# Altium footprint library TO255P1040X460X2890-3.PcbLib: 1 footprints
Each footprint in its own frame and in the unit in brackets; x right, y up, seen from the top. Pads: shape width x height; smd on the part's side, far side on the other; paste and mask are expansions set on the pad; w line width, h text height; cw(c..) or ccw(c..) is an arc to the next point about the centre after c.
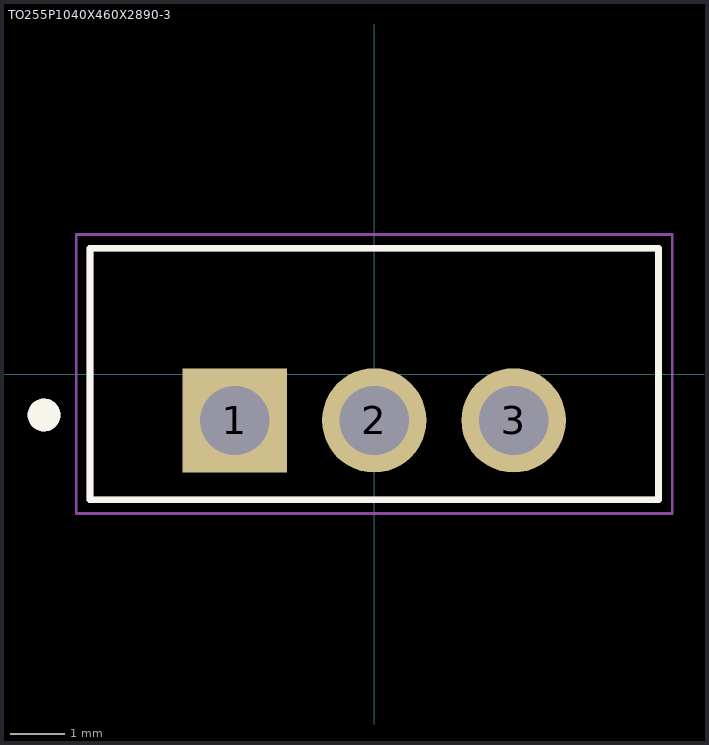
[diagram p0: the footprint, top view; thin cyan lines are the x and y axes]

## TO255P1040X460X2890-3 [mm]
pads (3):
  rect 1.91x1.91 hole 1.27: 1(-2.55,-0.85)
  round 1.91 hole 1.27: 2(0,-0.85) 3(2.55,-0.85)
Top Overlay:
  circle w0.3: c-6.04,-0.75 r0.15
  lines w0.127: -5.2,-2.3 -5.2,2.3 5.2,2.3 5.2,-2.3 -5.2,-2.3
Mechanical 13:
  circle w0.3: c-6.04,-0.75 r0.15
  lines w0.127: -5.2,-2.3 5.2,-2.3 5.2,2.3 -5.2,2.3 -5.2,-2.3
Mechanical 15:
  lines w0.05: -5.45,-2.55 5.45,-2.55 5.45,2.55 -5.45,2.55 -5.45,-2.55
3D body "step_temp.STEP": height 4.6, standoff 0, extent -5.1,-11.069 5.1,17.831